# Altium footprint library memory-idt.PCBLIB: 54 footprints (part 4 of 4)
Each footprint in its own frame and in the unit in brackets; x right, y up, seen from the top. Pads: shape width x height; smd on the part's side, far side on the other; paste and mask are expansions set on the pad; w line width, h text height; cw(c..) or ccw(c..) is an arc to the next point about the centre after c.
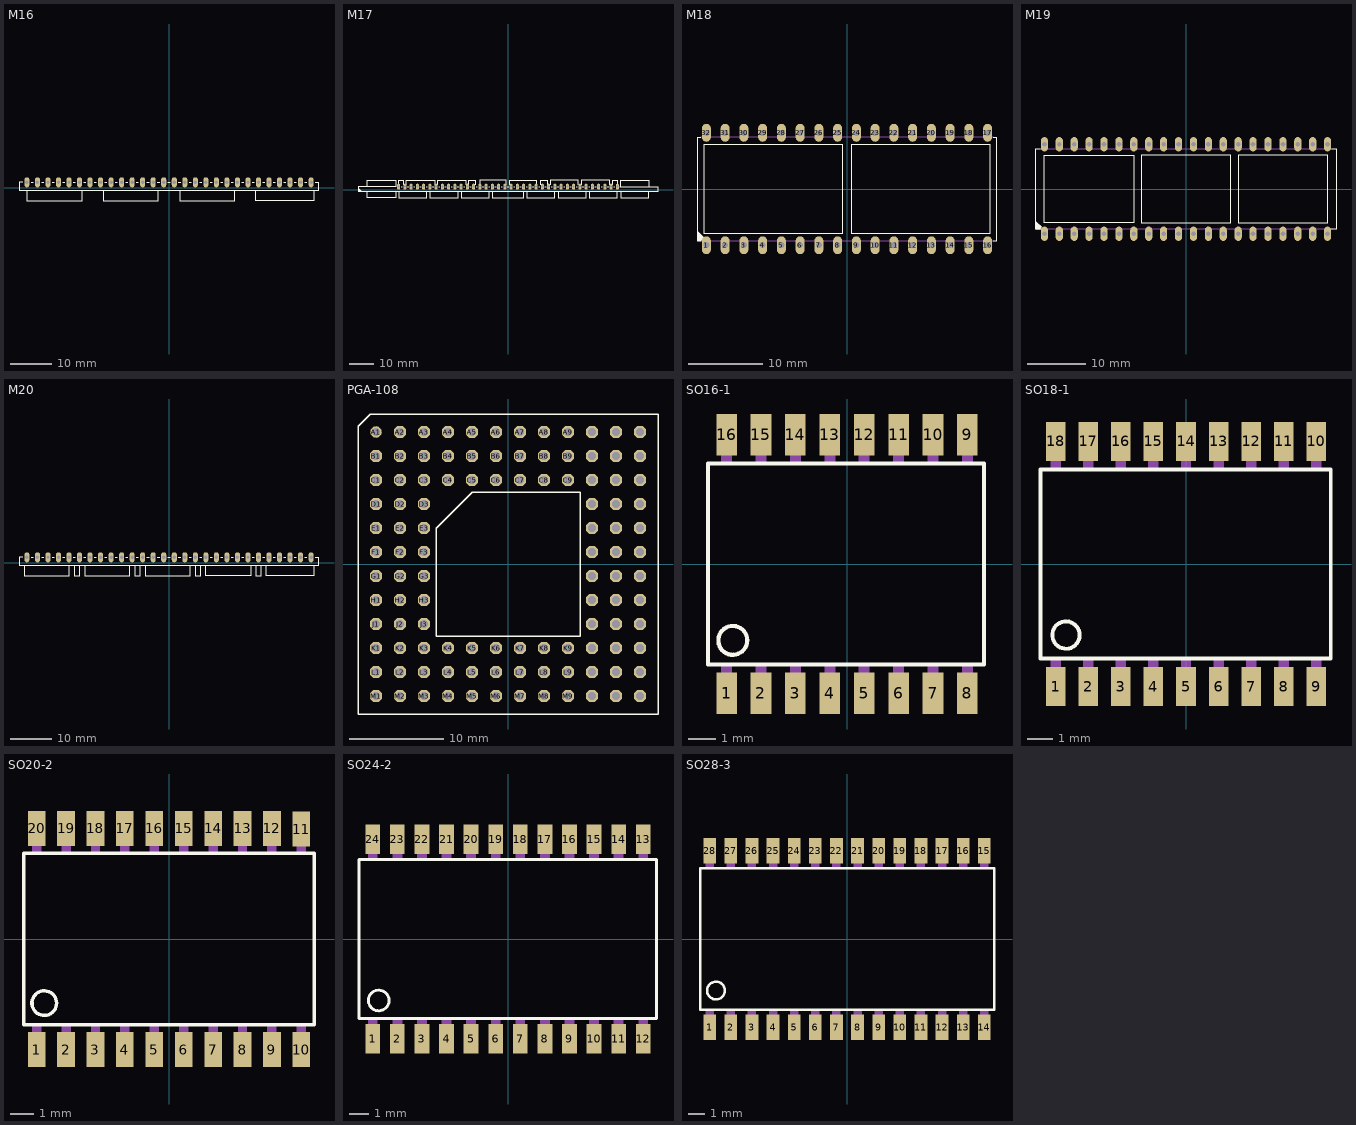
[diagram p3: the footprints below, top view; thin cyan lines are the x and y axes]

## M16 [mil]
pads (28):
  oval 48x96 hole 32: 1(-1350,50) 2(-1250,50) 3(-1150,50) 4(-1050,50) 5(-950,50) 6(-850,50) 7(-750,50) 8(-650,50) 9(-550,50) 10(-450,50) 11(-350,50) 12(-250,50) 13(-150,50) 14(-50,50) 15(50,50) 16(150,50) 17(250,50) 18(350,50) 19(450,50) 20(550,50) 21(650,50) 22(750,50) 23(850,50) 24(950,50) 25(1050,50) 26(1150,50) 27(1250,50) 28(1350,50)
Top Overlay:
  lines w6: -1390,50 -1425,50 -1425,-25 -1350,-25 ; -1310,50 -1290,50 ; -1210,50 -1190,50 ; -1110,50 -1090,50 ; -1010,50 -990,50 ; -910,50 -890,50 ; -810,50 -790,50 ; -710,50 -690,50 ; -610,50 -590,50 ; -510,50 -490,50 ; -410,50 -390,50 ; -310,50 -290,50 ; -210,50 -190,50 ; -110,50 -90,50 ; -10,50 10,50 ; 90,50 110,50 ; 190,50 210,50 ; 290,50 310,50 ; 390,50 410,50 ; 490,50 510,50 ; 590,50 610,50 ; 690,50 710,50 ; 790,50 810,50 ; 890,50 910,50 ; 990,50 1010,50 ; 1090,50 1110,50 ; 1190,50 1210,50 ; 1290,50 1310,50 ; 1390,50 1425,50 1425,-25 1375,-25 ; -1350,-25 -825,-25 ; -1350,-25 -1350,-125 -825,-125 -825,-25 ; -825,-25 -625,-25 ; -625,-25 -100,-25 ; -625,-25 -625,-125 -100,-125 -100,-25 ; -100,-25 100,-25 ; 100,-25 625,-25 ; 100,-25 100,-125 625,-125 625,-25 ; 625,-25 825,-25 ; 825,-25 1375,-25 ; 825,-25 825,-125 1375,-125 1375,-25

## M17 [mil]
pads (36):
  oval 48x96 hole 32: 1(-1750,50) 2(-1650,50) 3(-1550,50) 4(-1450,50) 5(-1350,50) 6(-1250,50) 7(-1150,50) 8(-1050,50) 9(-950,50) 10(-850,50) 11(-750,50) 12(-650,50) 13(-550,50) 14(-450,50) 15(-350,50) 16(-250,50) 17(-150,50) 18(-50,50) 19(50,50) 20(150,50) 21(250,50) 22(350,50) 23(450,50) 24(550,50) 25(650,50) 26(750,50) 27(850,50) 28(950,50) 29(1050,50) 30(1150,50) 31(1250,50) 32(1350,50) 33(1450,50) 34(1550,50) 35(1650,50) 36(1750,50)
Top Overlay:
  drawing of 151 lines, arcs and shapes, not listed

## M18 [mil]
pads (32):
  oval 48x96 hole 32: 1(-750,-300) 2(-650,-300) 3(-550,-300) 4(-450,-300) 5(-350,-300) 6(-250,-300) 7(-150,-300) 8(-50,-300) 9(50,-300) 10(150,-300) 11(250,-300) 12(350,-300) 13(450,-300) 14(550,-300) 15(650,-300) 16(750,-300) 17(750,300) 18(650,300) 19(550,300) 20(450,300) 21(350,300) 22(250,300) 23(150,300) 24(50,300) 25(-50,300) 26(-150,300) 27(-250,300) 28(-350,300) 29(-450,300) 30(-550,300) 31(-650,300) 32(-750,300)
Top Overlay:
  lines w6: -780,-270 -800,-250 ; -780,275 -800,275 -800,-225 ; -776.77,-267.01 -800,-243.74 ; -773.5,-264 -800,-237.5 ; -770.24,-260.98 -800,-231.26 ; 780,-275 800,-275 800,275 780,275 ; -800,-268.74 -800,-262.5 ; -800,-268.74 -800,-275 -793.74,-275 ; -800,-268.74 -793.74,-275 ; -800,-262.5 -800,-256.26 ; -800,-262.5 -787.5,-275 ; -800,-256.26 -800,-250 ; -800,-256.26 -781.26,-275 -784,-275 ; -800,-250 -800,-243.74 ; -800,-243.74 -800,-237.5 ; -800,-237.5 -800,-231.26 ; -800,-231.26 -800,-225 ; -800,-225 -767,-258 -784,-275 ; -793.74,-275 -787.5,-275 ; -787.5,-275 -784,-275 ; -762.5,-237.5 -25,-237.5 -25,237.5 -762.5,237.5 -762.5,-237.5 ; 25,-237.5 762.5,-237.5 762.5,237.5 25,237.5 25,-237.5
Mechanical 16:
  lines w6: -781.26,-275 -775,-275 ; -780,275 780,275 ; -779,-271 -775,-275 ; -775.98,-267.76 -768.74,-275 ; -773,-264.5 -762.5,-275 ; -770,-261.26 -756.26,-275 ; -767,-258 -750,-275 ; 780,-275 -750,-275 ; -775,-275 -768.74,-275 ; -768.74,-275 -762.5,-275 ; -762.5,-275 -756.26,-275 ; -756.26,-275 -750,-275

## M19 [mil]
pads (40):
  oval 48x96 hole 32: 1(-950,-300) 2(-850,-300) 3(-750,-300) 4(-650,-300) 5(-550,-300) 6(-450,-300) 7(-350,-300) 8(-250,-300) 9(-150,-300) 10(-50,-300) 11(50,-300) 12(150,-300) 13(250,-300) 14(350,-300) 15(450,-300) 16(550,-300) 17(650,-300) 18(750,-300) 19(850,-300) 20(950,-300) 21(950,300) 22(850,300) 23(750,300) 24(650,300) 25(550,300) 26(450,300) 27(350,300) 28(250,300) 29(150,300) 30(50,300) 31(-50,300) 32(-150,300) 33(-250,300) 34(-350,300) 35(-450,300) 36(-550,300) 37(-650,300) 38(-750,300) 39(-850,300) 40(-950,300)
Top Overlay:
  lines w6: -981.02,-262.76 -1006.26,-237.52 ; -978.74,268.74 -1006.26,268.74 -1006.26,-218.74 ; -977.76,-259.76 -1006.26,-231.26 ; -975,-268.74 -981.26,-268.74 ; -974.49,-256.77 -1006.26,-225 ; -971.26,-253.74 -1006.26,-218.74 ; 973.74,-268.74 1005.98,-268.74 ; 978.74,268.74 1006.26,268.74 1006.26,-268.74 ; -1006.26,-262.52 -1006.26,-268.74 -1000,-268.74 ; -1006.26,-262.52 -1006.26,-256.26 ; -1006.26,-262.52 -1000,-268.74 ; -1006.26,-256.26 -1006.26,-250 ; -1006.26,-256.26 -993.74,-268.74 ; -1006.26,-250 -1006.26,-243.74 ; -1006.26,-250 -987.52,-268.74 ; -1006.26,-243.74 -1006.26,-237.52 ; -1006.26,-243.74 -981.26,-268.74 ; -1006.26,-237.52 -1006.26,-231.26 ; -1006.26,-231.26 -1006.26,-225 ; -1006.26,-225 -1006.26,-218.74 ; -1000,-268.74 -993.74,-268.74 ; -993.74,-268.74 -987.52,-268.74 ; -987.52,-268.74 -981.26,-268.74 ; -950,-225 -350,-225 -350,225 -950,225 -950,-225 ; -300,-225 -300,225 300,225 300,-225 -300,-225 ; 350,-225 350,225 950,225 950,-225 350,-225
Mechanical 16:
  lines w6: -980.24,-263.5 -975,-268.74 -968.74,-268.74 ; -978.27,268.74 976.26,268.74 ; -977.24,-260.24 -968.74,-268.74 ; -974.25,-257.01 -962.52,-268.74 ; -971.26,-253.74 -956.26,-268.74 ; 975,-268.74 -956.26,-268.74 ; -968.74,-268.74 -962.52,-268.74 ; -962.52,-268.74 -956.26,-268.74

## M20 [mil]
pads (28):
  oval 48x96 hole 32: 1(-1350,50) 2(-1250,50) 3(-1150,50) 4(-1050,50) 5(-950,50) 6(-850,50) 7(-750,50) 8(-650,50) 9(-550,50) 10(-450,50) 11(-350,50) 12(-250,50) 13(-150,50) 14(-50,50) 15(50,50) 16(150,50) 17(250,50) 18(350,50) 19(450,50) 20(550,50) 21(650,50) 22(750,50) 23(850,50) 24(950,50) 25(1050,50) 26(1150,50) 27(1250,50) 28(1350,50)
Top Overlay:
  lines w6: -1390,50 -1425,50 -1425,-25 -1375,-25 ; -1310,50 -1290,50 ; -1210,50 -1190,50 ; -1110,50 -1090,50 ; -1010,50 -990,50 ; -910,50 -890,50 ; -810,50 -790,50 ; -710,50 -690,50 ; -610,50 -590,50 ; -510,50 -490,50 ; -410,50 -390,50 ; -310,50 -290,50 ; -210,50 -190,50 ; -110,50 -90,50 ; -10,50 10,50 ; 90,50 110,50 ; 190,50 210,50 ; 290,50 310,50 ; 390,50 410,50 ; 490,50 510,50 ; 590,50 610,50 ; 690,50 710,50 ; 790,50 810,50 ; 890,50 910,50 ; 990,50 1010,50 ; 1090,50 1110,50 ; 1190,50 1210,50 ; 1290,50 1310,50 ; 1390,50 1425,50 1425,-25 1375,-25 ; -1375,-25 -950,-25 ; -1375,-25 -1375,-125 -950,-125 -950,-25 ; -950,-25 -900,-25 ; -900,-25 -850,-25 ; -900,-25 -900,-125 -850,-125 -850,-25 ; -850,-25 -800,-25 ; -800,-25 -375,-25 ; -800,-25 -800,-125 -375,-125 -375,-25 ; -375,-25 -325,-25 ; -325,-25 -275,-25 ; -325,-25 -325,-125 -275,-125 -275,-25 ; -275,-25 -225,-25 ; -225,-25 200,-25 ; -225,-25 -225,-125 200,-125 200,-25 ; 200,-25 250,-25 ; 250,-25 300,-25 ; 250,-25 250,-125 300,-125 300,-25 ; 300,-25 350,-25 ; 350,-25 775,-25 ; 350,-25 350,-125 775,-125 775,-25 ; 775,-25 825,-25 ; 825,-25 875,-25 ; 825,-25 825,-125 875,-125 875,-25 ; 875,-25 925,-25 ; 925,-25 1375,-25 ; 925,-25 925,-125 1375,-125 1375,-25

## PGA-108 [mil]
pads (108):
  round 48 hole 32: A1(-550,550)
  oct 48x48 hole 32: A2(-450,550) A3(-350,550) A4(-250,550) A5(-150,550) A6(-50,550) A7(50,550) A8(150,550) A9(250,550) A10(350,550) A11(450,550) A12(550,550) B1(-550,450) B2(-450,450) B3(-350,450) B4(-250,450) B5(-150,450) B6(-50,450) B7(50,450) B8(150,450) B9(250,450) B10(350,450) B11(450,450) B12(550,450) C1(-550,350) C2(-450,350) C3(-350,350) C4(-250,350) C5(-150,350) C6(-50,350) C7(50,350) C8(150,350) C9(250,350) C10(350,350) C11(450,350) C12(550,350) D1(-550,250) D2(-450,250) D3(-350,250) D10(350,250) D11(450,250) D12(550,250) E1(-550,150) E2(-450,150) E3(-350,150) E10(350,150) E11(450,150) E12(550,150) F1(-550,50) F2(-450,50) F3(-350,50) F10(350,50) F11(450,50) F12(550,50) G1(-550,-50) G2(-450,-50) G3(-350,-50) G10(350,-50) G11(450,-50) G12(550,-50) H1(-550,-150) H2(-450,-150) H3(-350,-150) H10(350,-150) H11(450,-150) H12(550,-150) J1(-550,-250) J2(-450,-250) J3(-350,-250) J10(350,-250) J11(450,-250) J12(550,-250) K1(-550,-350) K2(-450,-350) K3(-350,-350) K4(-250,-350) K5(-150,-350) K6(-50,-350) K7(50,-350) K8(150,-350) K9(250,-350) K10(350,-350) K11(450,-350) K12(550,-350) L1(-550,-450) L2(-450,-450) L3(-350,-450) L4(-250,-450) L5(-150,-450) L6(-50,-450) L7(50,-450) L8(150,-450) L9(250,-450) L10(350,-450) L11(450,-450) L12(550,-450) M1(-550,-550) M2(-450,-550) M3(-350,-550) M4(-250,-550) M5(-150,-550) M6(-50,-550) M7(50,-550) M8(150,-550) M9(250,-550) M10(350,-550) M11(450,-550) M12(550,-550)
Top Overlay:
  lines w6: -625,-625 625,-625 625,625 -575,625 -625,575 -625,-625 ; -300,-300 300,-300 300,300 -150,300 -300,150 -300,-300

## SO16-1 [mil]
pads (16):
  rect 30x60 smd: 1(-175,-188) 2(-125,-188) 3(-75,-188) 4(-25,-188) 5(25,-188) 6(75,-188) 7(125,-188) 8(175,-188) 9(175,188) 10(125,188) 11(75,188) 12(25,188) 13(-25,188) 14(-75,188) 15(-125,188) 16(-175,188)
Top Overlay:
  circle w6: c-166,-111 r21
  lines w6: -202,-146 199,-146 199,146 -202,146 -202,-146
Mechanical 16:
  rectangle: 167,148 183,200
  rectangle: 117,148 133,200
  rectangle: 67,148 83,200
  rectangle: 17,148 33,200
  rectangle: -33,148 -17,200
  rectangle: -83,148 -67,200
  rectangle: -133,148 -117,200
  rectangle: -183,148 -167,200
  rectangle: 167,-200 183,-148
  rectangle: 117,-200 133,-148
  rectangle: 67,-200 83,-148
  rectangle: 17,-200 33,-148
  rectangle: -33,-200 -17,-148
  rectangle: -83,-200 -67,-148
  rectangle: -133,-200 -117,-148
  rectangle: -183,-200 -167,-148

## SO18-1 [mil]
pads (18):
  rect 30x60 smd: 1(-200,-188) 2(-150,-188) 3(-100,-188) 4(-50,-188) 5(0,-188) 6(50,-188) 7(100,-188) 8(150,-188) 9(200,-188) 10(200,188) 11(150,188) 12(100,188) 13(50,188) 14(0,188) 15(-50,188) 16(-100,188) 17(-150,188) 18(-200,188)
Top Overlay:
  circle w6: c-184,-109 r21
  lines w6: -223,-145 222,-145 222,145 -223,145 -223,-145
Mechanical 16:
  rectangle: 192,147 208,200
  rectangle: 142,147 158,200
  rectangle: 92,147 108,200
  rectangle: 42,147 58,200
  rectangle: -8,147 8,200
  rectangle: -58,147 -42,200
  rectangle: -108,147 -92,200
  rectangle: -158,147 -142,200
  rectangle: -208,147 -192,200
  rectangle: -208,-200 -192,-147
  rectangle: -158,-200 -142,-147
  rectangle: -108,-200 -92,-147
  rectangle: -58,-200 -42,-147
  rectangle: -8,-200 8,-147
  rectangle: 42,-200 58,-147
  rectangle: 92,-200 108,-147
  rectangle: 142,-200 158,-147
  rectangle: 192,-200 208,-147

## SO20-2 [mil]
pads (20):
  rect 30x60 smd: 1(-225,-188) 2(-175,-188) 3(-125,-188) 4(-75,-188) 5(-25,-188) 6(25,-188) 7(75,-188) 8(125,-188) 9(175,-188) 10(225,-188) 11(225,187) 12(175,188) 13(125,188) 14(75,188) 15(25,188) 16(-25,188) 17(-75,188) 18(-125,188) 19(-175,188) 20(-225,188)
Top Overlay:
  circle w6: c-212,-109 r21
  lines w6: -247,-146 247,-146 247,146 -247,146 -247,-146
Mechanical 16:
  rectangle: 217,148 233,200
  rectangle: 167,148 183,200
  rectangle: 117,148 133,200
  rectangle: 67,148 83,200
  rectangle: 17,148 33,200
  rectangle: -33,148 -17,200
  rectangle: -83,148 -67,200
  rectangle: -133,148 -117,200
  rectangle: -183,148 -167,200
  rectangle: -233,148 -217,200
  rectangle: 217,-200 233,-148
  rectangle: 167,-200 183,-148
  rectangle: 117,-200 133,-148
  rectangle: 67,-200 83,-148
  rectangle: 17,-200 33,-148
  rectangle: -33,-200 -17,-148
  rectangle: -83,-200 -67,-148
  rectangle: -133,-200 -117,-148
  rectangle: -183,-200 -167,-148
  rectangle: -233,-200 -217,-148

## SO24-2 [mil]
pads (24):
  rect 30x60 smd: 1(-275,-203) 2(-225,-203) 3(-175,-203) 4(-125,-203) 5(-75,-203) 6(-25,-203) 7(25,-203) 8(75,-203) 9(125,-203) 10(175,-203) 11(225,-203) 12(275,-203) 13(275,203) 14(225,203) 15(175,203) 16(125,203) 17(75,203) 18(25,203) 19(-25,203) 20(-75,203) 21(-125,203) 22(-175,203) 23(-225,203) 24(-275,203)
Top Overlay:
  circle w6: c-263,-125 r21
  lines w6: -303,-162 302,-162 302,162 -303,162 -303,-162
Mechanical 16:
  rectangle: -285,-223 -265,-163
  rectangle: -235,-223 -215,-163
  rectangle: -185,-223 -165,-163
  rectangle: -135,-223 -115,-163
  rectangle: -85,-223 -65,-163
  rectangle: -35,-223 -15,-163
  rectangle: 15,-223 35,-163
  rectangle: 65,-223 85,-163
  rectangle: 115,-223 135,-163
  rectangle: 165,-223 185,-163
  rectangle: 215,-223 235,-163
  rectangle: 265,-223 285,-163
  rectangle: 265,163 285,223
  rectangle: 215,163 235,223
  rectangle: 165,163 185,223
  rectangle: 115,163 135,223
  rectangle: 65,163 85,223
  rectangle: 15,163 35,223
  rectangle: -35,163 -15,223
  rectangle: -85,163 -65,223
  rectangle: -135,163 -115,223
  rectangle: -185,163 -165,223
  rectangle: -235,163 -215,223
  rectangle: -285,163 -265,223

## SO28-3 [mil]
pads (28):
  rect 30x60 smd: 1(-325,-209.25) 2(-275,-209.25) 3(-225,-209.25) 4(-175,-209.25) 5(-125,-209.25) 6(-75,-209.25) 7(-25,-209.25) 8(25,-209.25) 9(75,-209.25) 10(125,-209.25) 11(175,-209.25) 12(225,-209.25) 13(275,-209.25) 14(325,-209.25) 15(325,209.25) 16(275,209.25) 17(225,209.25) 18(175,209.25) 19(125,209.25) 20(75,209.25) 21(25,209.25) 22(-25,209.25) 23(-75,209.25) 24(-125,209.25) 25(-175,209.25) 26(-225,209.25) 27(-275,209.25) 28(-325,209.25)
Top Overlay:
  circle w6: c-310,-122 r21
  lines w6: -347.01,-167.24 347.99,-167.24 347.99,167.24 -347.01,167.24 -347.01,-167.24
Mechanical 16:
  rectangle: -335,-228.25 -315,-168.25
  rectangle: -285,-228.25 -265,-168.25
  rectangle: -235,-228.25 -215,-168.25
  rectangle: -185,-228.25 -165,-168.25
  rectangle: -135,-228.25 -115,-168.25
  rectangle: -85,-228.25 -65,-168.25
  rectangle: -35,-228.25 -15,-168.25
  rectangle: 15,-228.25 35,-168.25
  rectangle: 65,-228.25 85,-168.25
  rectangle: 115,-228.25 135,-168.25
  rectangle: 165,-228.25 185,-168.25
  rectangle: 215,-228.25 235,-168.25
  rectangle: 265,-228.25 285,-168.25
  rectangle: 315,-228.25 335,-168.25
  rectangle: 315,168.25 335,228.25
  rectangle: 265,168.25 285,228.25
  rectangle: 215,168.25 235,228.25
  rectangle: 165,168.25 185,228.25
  rectangle: 115,168.25 135,228.25
  rectangle: 65,168.25 85,228.25
  rectangle: 15,168.25 35,228.25
  rectangle: -35,168.25 -15,228.25
  rectangle: -85,168.25 -65,228.25
  rectangle: -135,168.25 -115,228.25
  rectangle: -185,168.25 -165,228.25
  rectangle: -235,168.25 -215,228.25
  rectangle: -285,168.25 -265,228.25
  rectangle: -335,168.25 -315,228.25